# Altium schematic symbol library jlcpcb_2025_04_inductors_extended_1008.schlib: 378 symbols (part 7 of 7)
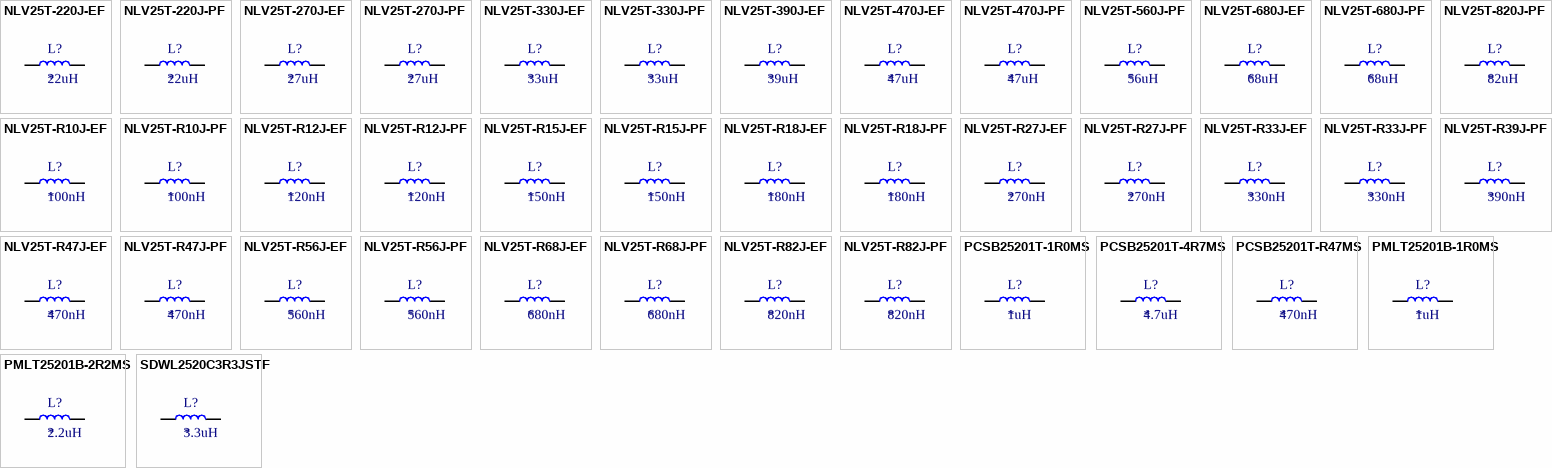
[diagram p15: symbols NLV25T-220J-EF to SDWL2520C3R3JSTF]

## NLV25T-470J-PF
designator L?  Inductance: 47uH
Inductor, 47uH, ±5%, 11.1Ω, 80mA, SMD 1008; Manufacturer: TDK; Manufacturer Part Number: NLV25T-470J-PF; Self-Resonant Frequency: 17MHz; Q Factor: 20@2.52MHz; Package Size: 1008; JLCPCB Basic Part: No; JLCPCB Part Number: C88519; Supplier 1: LCSC; Category: Inductors; Supplier Part Number 1: C88519; Tolerance: ±5%; Rated Current: 80mA; DC Resistance: 11.1Ω; RoHS: Yes; ComponentLink1Description: Datasheet; ComponentLink1URL: https://wmsc.lcsc.com/wmsc/upload/file/pdf/v2/lcsc/1811122108_TDK-NLV25T-470J-PF_C88519.pdf; ComponentLink2Description: JLCPCB Part URL; ComponentLink2URL: https://jlcpcb.com/partdetail/C88519; ComponentLink3Description: LCSC Part URL; ComponentLink3URL: https://lcsc.com/product-detail/Inductors-SMD_TDK-TDK-NLV25T-470J-PF_C88519.html
footprint IND-1008 (1008 (2520M) Inductor)
pins: 1, 2

## NLV25T-560J-PF
designator L?  Inductance: 56uH
Inductor, 56uH, ±5%, 12.1Ω, 75mA, SMD 1008; Manufacturer: TDK; Manufacturer Part Number: NLV25T-560J-PF; Self-Resonant Frequency: 16MHz; Q Factor: 20@2.52MHz; Package Size: 1008; JLCPCB Basic Part: No; JLCPCB Part Number: C88520; Supplier 1: LCSC; Category: Inductors; Supplier Part Number 1: C88520; Tolerance: ±5%; Rated Current: 75mA; DC Resistance: 12.1Ω; RoHS: Yes; ComponentLink1Description: Datasheet; ComponentLink1URL: https://wmsc.lcsc.com/wmsc/upload/file/pdf/v2/lcsc/1810241906_TDK-NLV25T-560J-PF_C88520.pdf; ComponentLink2Description: JLCPCB Part URL; ComponentLink2URL: https://jlcpcb.com/partdetail/C88520; ComponentLink3Description: LCSC Part URL; ComponentLink3URL: https://lcsc.com/product-detail/Inductors-SMD_TDK-TDK-NLV25T-560J-PF_C88520.html
footprint IND-1008 (1008 (2520M) Inductor)
pins: 1, 2

## NLV25T-680J-EF
designator L?  Inductance: 68uH
Inductor, 68uH, ±5%, 16.6Ω, 70mA, SMD 1008; Manufacturer: TDK; Manufacturer Part Number: NLV25T-680J-EF; Self-Resonant Frequency: 15MHz; Q Factor: 20@2.52MHz; Package Size: 1008; JLCPCB Basic Part: No; JLCPCB Part Number: C286750; Supplier 1: LCSC; Category: Inductors; Supplier Part Number 1: C286750; Tolerance: ±5%; Rated Current: 70mA; DC Resistance: 16.6Ω; RoHS: Yes; ComponentLink1Description: Datasheet; ComponentLink1URL: https://wmsc.lcsc.com/wmsc/upload/file/pdf/v2/lcsc/2304140030_TDK-NLV25T-680J-EF_C286750.pdf; ComponentLink2Description: JLCPCB Part URL; ComponentLink2URL: https://jlcpcb.com/partdetail/C286750; ComponentLink3Description: LCSC Part URL; ComponentLink3URL: https://lcsc.com/product-detail/Inductors-SMD_TDK-TDK-NLV25T-680J-EF_C286750.html
footprint IND-1008 (1008 (2520M) Inductor)
pins: 1, 2

## NLV25T-680J-PF
designator L?  Inductance: 68uH
Inductor, 68uH, ±5%, 16.6Ω, 70mA, SMD 1008; Manufacturer: TDK; Manufacturer Part Number: NLV25T-680J-PF; Self-Resonant Frequency: 15MHz; Q Factor: 20@2.52MHz; Package Size: 1008; JLCPCB Basic Part: No; JLCPCB Part Number: C250163; Supplier 1: LCSC; Category: Inductors; Supplier Part Number 1: C250163; Tolerance: ±5%; Rated Current: 70mA; DC Resistance: 16.6Ω; RoHS: Yes; ComponentLink1Description: Datasheet; ComponentLink1URL: https://wmsc.lcsc.com/wmsc/upload/file/pdf/v2/lcsc/1810241920_TDK-NLV25T-680J-PF_C250163.pdf; ComponentLink2Description: JLCPCB Part URL; ComponentLink2URL: https://jlcpcb.com/partdetail/C250163; ComponentLink3Description: LCSC Part URL; ComponentLink3URL: https://lcsc.com/product-detail/Inductors-SMD_TDK-TDK-NLV25T-680J-PF_C250163.html
footprint IND-1008 (1008 (2520M) Inductor)
pins: 1, 2

## NLV25T-820J-PF
designator L?  Inductance: 82uH
Inductor, 82uH, ±5%, 19Ω, 66mA, SMD 1008; Manufacturer: TDK; Manufacturer Part Number: NLV25T-820J-PF; Self-Resonant Frequency: 13MHz; Q Factor: 20@2.52MHz; Package Size: 1008; JLCPCB Basic Part: No; JLCPCB Part Number: C136258; Supplier 1: LCSC; Category: Inductors; Supplier Part Number 1: C136258; Tolerance: ±5%; Rated Current: 66mA; DC Resistance: 19Ω; RoHS: Yes; ComponentLink1Description: Datasheet; ComponentLink1URL: https://wmsc.lcsc.com/wmsc/upload/file/pdf/v2/lcsc/1810241811_TDK-NLV25T-820J-PF_C136258.pdf; ComponentLink2Description: JLCPCB Part URL; ComponentLink2URL: https://jlcpcb.com/partdetail/C136258; ComponentLink3Description: LCSC Part URL; ComponentLink3URL: https://lcsc.com/product-detail/Inductors-SMD_TDK-TDK-NLV25T-820J-PF_C136258.html
footprint IND-1008 (1008 (2520M) Inductor)
pins: 1, 2

## NLV25T-R10J-EF
designator L?  Inductance: 100nH
Inductor, 100nH, ±5%, 800mΩ, 280mA, SMD 1008; Manufacturer: TDK; Manufacturer Part Number: NLV25T-R10J-EF; Self-Resonant Frequency: 800MHz; Q Factor: 20@100MHz; Package Size: 1008; JLCPCB Basic Part: No; JLCPCB Part Number: C295184; Supplier 1: LCSC; Category: Inductors; Supplier Part Number 1: C295184; Tolerance: ±5%; Rated Current: 280mA; DC Resistance: 800mΩ; RoHS: Yes; ComponentLink1Description: Datasheet; ComponentLink1URL: https://wmsc.lcsc.com/wmsc/upload/file/pdf/v2/lcsc/2304140030_TDK-NLV25T-R10J-EF_C295184.pdf; ComponentLink2Description: JLCPCB Part URL; ComponentLink2URL: https://jlcpcb.com/partdetail/C295184; ComponentLink3Description: LCSC Part URL; ComponentLink3URL: https://lcsc.com/product-detail/Inductors-SMD_TDK-TDK-NLV25T-R10J-EF_C295184.html
footprint IND-1008 (1008 (2520M) Inductor)
pins: 1, 2

## NLV25T-R10J-PF
designator L?  Inductance: 100nH
Inductor, 100nH, ±5%, 800mΩ, 280mA, SMD 1008; Manufacturer: TDK; Manufacturer Part Number: NLV25T-R10J-PF; Self-Resonant Frequency: 800MHz; Q Factor: 20@100MHz; Package Size: 1008; JLCPCB Basic Part: No; JLCPCB Part Number: C88522; Supplier 1: LCSC; Category: Inductors; Supplier Part Number 1: C88522; Tolerance: ±5%; Rated Current: 280mA; DC Resistance: 800mΩ; RoHS: Yes; ComponentLink1Description: Datasheet; ComponentLink1URL: https://wmsc.lcsc.com/wmsc/upload/file/pdf/v2/lcsc/1810241906_TDK-NLV25T-R10J-PF_C88522.pdf; ComponentLink2Description: JLCPCB Part URL; ComponentLink2URL: https://jlcpcb.com/partdetail/C88522; ComponentLink3Description: LCSC Part URL; ComponentLink3URL: https://lcsc.com/product-detail/Inductors-SMD_TDK-TDK-NLV25T-R10J-PF_C88522.html
footprint IND-1008 (1008 (2520M) Inductor)
pins: 1, 2

## NLV25T-R12J-EF
designator L?  Inductance: 120nH
Inductor, 120nH, ±5%, 300mΩ, 550mA, SMD 1008; Manufacturer: TDK; Manufacturer Part Number: NLV25T-R12J-EF; Self-Resonant Frequency: 700MHz; Q Factor: 30@25.2MHz; Package Size: 1008; JLCPCB Basic Part: No; JLCPCB Part Number: C295183; Supplier 1: LCSC; Category: Inductors; Supplier Part Number 1: C295183; Tolerance: ±5%; Rated Current: 550mA; DC Resistance: 300mΩ; RoHS: Yes; ComponentLink1Description: Datasheet; ComponentLink1URL: https://wmsc.lcsc.com/wmsc/upload/file/pdf/v2/lcsc/2304140030_TDK-NLV25T-R12J-EF_C295183.pdf; ComponentLink2Description: JLCPCB Part URL; ComponentLink2URL: https://jlcpcb.com/partdetail/C295183; ComponentLink3Description: LCSC Part URL; ComponentLink3URL: https://lcsc.com/product-detail/Inductors-SMD_TDK-TDK-NLV25T-R12J-EF_C295183.html
footprint IND-1008 (1008 (2520M) Inductor)
pins: 1, 2

## NLV25T-R12J-PF
designator L?  Inductance: 120nH
Inductor, 120nH, ±5%, 300mΩ, 550mA, SMD 1008; Manufacturer: TDK; Manufacturer Part Number: NLV25T-R12J-PF; Self-Resonant Frequency: 700MHz; Q Factor: 30@25.2MHz; Package Size: 1008; JLCPCB Basic Part: No; JLCPCB Part Number: C250152; Supplier 1: LCSC; Category: Inductors; Supplier Part Number 1: C250152; Tolerance: ±5%; Rated Current: 550mA; DC Resistance: 300mΩ; RoHS: Yes; ComponentLink1Description: Datasheet; ComponentLink1URL: https://wmsc.lcsc.com/wmsc/upload/file/pdf/v2/lcsc/2304140030_TDK-NLV25T-R12J-PF_C250152.pdf; ComponentLink2Description: JLCPCB Part URL; ComponentLink2URL: https://jlcpcb.com/partdetail/C250152; ComponentLink3Description: LCSC Part URL; ComponentLink3URL: https://lcsc.com/product-detail/Inductors-SMD_TDK-TDK-NLV25T-R12J-PF_C250152.html
footprint IND-1008 (1008 (2520M) Inductor)
pins: 1, 2

## NLV25T-R15J-EF
designator L?  Inductance: 150nH
Inductor, 150nH, ±5%, 350mΩ, 500mA, SMD 1008; Manufacturer: TDK; Manufacturer Part Number: NLV25T-R15J-EF; Self-Resonant Frequency: 550MHz; Q Factor: 30@25.2MHz; Package Size: 1008; JLCPCB Basic Part: No; JLCPCB Part Number: C295185; Supplier 1: LCSC; Category: Inductors; Supplier Part Number 1: C295185; Tolerance: ±5%; Rated Current: 500mA; DC Resistance: 350mΩ; RoHS: Yes; ComponentLink1Description: Datasheet; ComponentLink1URL: https://wmsc.lcsc.com/wmsc/upload/file/pdf/v2/lcsc/2304140030_TDK-NLV25T-R15J-EF_C295185.pdf; ComponentLink2Description: JLCPCB Part URL; ComponentLink2URL: https://jlcpcb.com/partdetail/C295185; ComponentLink3Description: LCSC Part URL; ComponentLink3URL: https://lcsc.com/product-detail/Inductors-SMD_TDK-TDK-NLV25T-R15J-EF_C295185.html
footprint IND-1008 (1008 (2520M) Inductor)
pins: 1, 2

## NLV25T-R15J-PF
designator L?  Inductance: 150nH
Inductor, 150nH, ±5%, 350mΩ, 500mA, SMD 1008; Manufacturer: TDK; Manufacturer Part Number: NLV25T-R15J-PF; Self-Resonant Frequency: 550MHz; Q Factor: 30@25.2MHz; Package Size: 1008; JLCPCB Basic Part: No; JLCPCB Part Number: C250153; Supplier 1: LCSC; Category: Inductors; Supplier Part Number 1: C250153; Tolerance: ±5%; Rated Current: 500mA; DC Resistance: 350mΩ; RoHS: Yes; ComponentLink1Description: Datasheet; ComponentLink1URL: https://wmsc.lcsc.com/wmsc/upload/file/pdf/v2/lcsc/2304140030_TDK-NLV25T-R15J-PF_C250153.pdf; ComponentLink2Description: JLCPCB Part URL; ComponentLink2URL: https://jlcpcb.com/partdetail/C250153; ComponentLink3Description: LCSC Part URL; ComponentLink3URL: https://lcsc.com/product-detail/Inductors-SMD_TDK-TDK-NLV25T-R15J-PF_C250153.html
footprint IND-1008 (1008 (2520M) Inductor)
pins: 1, 2

## NLV25T-R18J-EF
designator L?  Inductance: 180nH
Inductor, 180nH, ±5%, 400mΩ, 475mA, SMD 1008; Manufacturer: TDK; Manufacturer Part Number: NLV25T-R18J-EF; Self-Resonant Frequency: 500MHz; Q Factor: 30@25.2MHz; Package Size: 1008; JLCPCB Basic Part: No; JLCPCB Part Number: C295158; Supplier 1: LCSC; Category: Inductors; Supplier Part Number 1: C295158; Tolerance: ±5%; Rated Current: 475mA; DC Resistance: 400mΩ; RoHS: Yes; ComponentLink1Description: Datasheet; ComponentLink1URL: https://wmsc.lcsc.com/wmsc/upload/file/pdf/v2/lcsc/2304140030_TDK-NLV25T-R18J-EF_C295158.pdf; ComponentLink2Description: JLCPCB Part URL; ComponentLink2URL: https://jlcpcb.com/partdetail/C295158; ComponentLink3Description: LCSC Part URL; ComponentLink3URL: https://lcsc.com/product-detail/Inductors-SMD_TDK-TDK-NLV25T-R18J-EF_C295158.html
footprint IND-1008 (1008 (2520M) Inductor)
pins: 1, 2

## NLV25T-R18J-PF
designator L?  Inductance: 180nH
Inductor, 180nH, ±5%, 400mΩ, 460mA, SMD 1008; Manufacturer: TDK; Manufacturer Part Number: NLV25T-R18J-PF; Self-Resonant Frequency: 500MHz; Q Factor: 30@25.2MHz; Package Size: 1008; JLCPCB Basic Part: No; JLCPCB Part Number: C250154; Supplier 1: LCSC; Category: Inductors; Supplier Part Number 1: C250154; Tolerance: ±5%; Rated Current: 460mA; DC Resistance: 400mΩ; RoHS: Yes; ComponentLink1Description: Datasheet; ComponentLink1URL: https://wmsc.lcsc.com/wmsc/upload/file/pdf/v2/lcsc/2304140030_TDK-NLV25T-R18J-PF_C250154.pdf; ComponentLink2Description: JLCPCB Part URL; ComponentLink2URL: https://jlcpcb.com/partdetail/C250154; ComponentLink3Description: LCSC Part URL; ComponentLink3URL: https://lcsc.com/product-detail/Inductors-SMD_TDK-TDK-NLV25T-R18J-PF_C250154.html
footprint IND-1008 (1008 (2520M) Inductor)
pins: 1, 2

## NLV25T-R27J-EF
designator L?  Inductance: 270nH
Inductor, 270nH, ±5%, 550mΩ, 420mA, SMD 1008; Manufacturer: TDK; Manufacturer Part Number: NLV25T-R27J-EF; Self-Resonant Frequency: 425MHz; Q Factor: 30@25.2MHz; Package Size: 1008; JLCPCB Basic Part: No; JLCPCB Part Number: C295152; Supplier 1: LCSC; Category: Inductors; Supplier Part Number 1: C295152; Tolerance: ±5%; Rated Current: 420mA; DC Resistance: 550mΩ; RoHS: Yes; ComponentLink1Description: Datasheet; ComponentLink1URL: https://wmsc.lcsc.com/wmsc/upload/file/pdf/v2/lcsc/2304140030_TDK-NLV25T-R27J-EF_C295152.pdf; ComponentLink2Description: JLCPCB Part URL; ComponentLink2URL: https://jlcpcb.com/partdetail/C295152; ComponentLink3Description: LCSC Part URL; ComponentLink3URL: https://lcsc.com/product-detail/Inductors-SMD_TDK-TDK-NLV25T-R27J-EF_C295152.html
footprint IND-1008 (1008 (2520M) Inductor)
pins: 1, 2

## NLV25T-R27J-PF
designator L?  Inductance: 270nH
Inductor, 270nH, ±5%, 550mΩ, 420mA, SMD 1008; Manufacturer: TDK; Manufacturer Part Number: NLV25T-R27J-PF; Self-Resonant Frequency: 425MHz; Q Factor: 30@25.2MHz; Package Size: 1008; JLCPCB Basic Part: No; JLCPCB Part Number: C88524; Supplier 1: LCSC; Category: Inductors; Supplier Part Number 1: C88524; Tolerance: ±5%; Rated Current: 420mA; DC Resistance: 550mΩ; RoHS: Yes; ComponentLink1Description: Datasheet; ComponentLink1URL: https://wmsc.lcsc.com/wmsc/upload/file/pdf/v2/lcsc/1810241907_TDK-NLV25T-R27J-PF_C88524.pdf; ComponentLink2Description: JLCPCB Part URL; ComponentLink2URL: https://jlcpcb.com/partdetail/C88524; ComponentLink3Description: LCSC Part URL; ComponentLink3URL: https://lcsc.com/product-detail/Inductors-SMD_TDK-TDK-NLV25T-R27J-PF_C88524.html
footprint IND-1008 (1008 (2520M) Inductor)
pins: 1, 2

## NLV25T-R33J-EF
designator L?  Inductance: 330nH
Inductor, 330nH, ±5%, 600mΩ, 400mA, SMD 1008; Manufacturer: TDK; Manufacturer Part Number: NLV25T-R33J-EF; Self-Resonant Frequency: 400MHz; Q Factor: 30@25.2MHz; Package Size: 1008; JLCPCB Basic Part: No; JLCPCB Part Number: C295133; Supplier 1: LCSC; Category: Inductors; Supplier Part Number 1: C295133; Tolerance: ±5%; Rated Current: 400mA; DC Resistance: 600mΩ; RoHS: Yes; ComponentLink1Description: Datasheet; ComponentLink1URL: https://wmsc.lcsc.com/wmsc/upload/file/pdf/v2/lcsc/2304140030_TDK-NLV25T-R33J-EF_C295133.pdf; ComponentLink2Description: JLCPCB Part URL; ComponentLink2URL: https://jlcpcb.com/partdetail/C295133; ComponentLink3Description: LCSC Part URL; ComponentLink3URL: https://lcsc.com/product-detail/Inductors-SMD_TDK-TDK-NLV25T-R33J-EF_C295133.html
footprint IND-1008 (1008 (2520M) Inductor)
pins: 1, 2

## NLV25T-R33J-PF
designator L?  Inductance: 330nH
Inductor, 330nH, ±5%, 600mΩ, 400mA, SMD 1008; Manufacturer: TDK; Manufacturer Part Number: NLV25T-R33J-PF; Self-Resonant Frequency: 400MHz; Q Factor: 30@25.2MHz; Package Size: 1008; JLCPCB Basic Part: No; JLCPCB Part Number: C250155; Supplier 1: LCSC; Category: Inductors; Supplier Part Number 1: C250155; Tolerance: ±5%; Rated Current: 400mA; DC Resistance: 600mΩ; RoHS: Yes; ComponentLink1Description: Datasheet; ComponentLink1URL: https://wmsc.lcsc.com/wmsc/upload/file/pdf/v2/lcsc/2304140030_TDK-NLV25T-R33J-PF_C250155.pdf; ComponentLink2Description: JLCPCB Part URL; ComponentLink2URL: https://jlcpcb.com/partdetail/C250155; ComponentLink3Description: LCSC Part URL; ComponentLink3URL: https://lcsc.com/product-detail/Inductors-SMD_TDK-TDK-NLV25T-R33J-PF_C250155.html
footprint IND-1008 (1008 (2520M) Inductor)
pins: 1, 2

## NLV25T-R39J-PF
designator L?  Inductance: 390nH
Inductor, 390nH, ±5%, 650mΩ, 375mA, SMD 1008; Manufacturer: TDK; Manufacturer Part Number: NLV25T-R39J-PF; Self-Resonant Frequency: 375MHz; Q Factor: 30@25.2MHz; Package Size: 1008; JLCPCB Basic Part: No; JLCPCB Part Number: C88525; Supplier 1: LCSC; Category: Inductors; Supplier Part Number 1: C88525; Tolerance: ±5%; Rated Current: 375mA; DC Resistance: 650mΩ; RoHS: Yes; ComponentLink1Description: Datasheet; ComponentLink1URL: https://wmsc.lcsc.com/wmsc/upload/file/pdf/v2/lcsc/1810241907_TDK-NLV25T-R39J-PF_C88525.pdf; ComponentLink2Description: JLCPCB Part URL; ComponentLink2URL: https://jlcpcb.com/partdetail/C88525; ComponentLink3Description: LCSC Part URL; ComponentLink3URL: https://lcsc.com/product-detail/Inductors-SMD_TDK-TDK-NLV25T-R39J-PF_C88525.html
footprint IND-1008 (1008 (2520M) Inductor)
pins: 1, 2

## NLV25T-R47J-EF
designator L?  Inductance: 470nH
Inductor, 470nH, ±5%, 680mΩ, 350mA, SMD 1008; Manufacturer: TDK; Manufacturer Part Number: NLV25T-R47J-EF; Self-Resonant Frequency: 350MHz; Q Factor: 30@25.2MHz; Package Size: 1008; JLCPCB Basic Part: No; JLCPCB Part Number: C295134; Supplier 1: LCSC; Category: Inductors; Supplier Part Number 1: C295134; Tolerance: ±5%; Rated Current: 350mA; DC Resistance: 680mΩ; RoHS: Yes; ComponentLink1Description: Datasheet; ComponentLink1URL: https://wmsc.lcsc.com/wmsc/upload/file/pdf/v2/lcsc/2304140030_TDK-NLV25T-R47J-EF_C295134.pdf; ComponentLink2Description: JLCPCB Part URL; ComponentLink2URL: https://jlcpcb.com/partdetail/C295134; ComponentLink3Description: LCSC Part URL; ComponentLink3URL: https://lcsc.com/product-detail/Inductors-SMD_TDK-TDK-NLV25T-R47J-EF_C295134.html
footprint IND-1008 (1008 (2520M) Inductor)
pins: 1, 2

## NLV25T-R47J-PF
designator L?  Inductance: 470nH
Inductor, 470nH, ±5%, 680mΩ, 350mA, SMD 1008; Manufacturer: TDK; Manufacturer Part Number: NLV25T-R47J-PF; Self-Resonant Frequency: 350MHz; Q Factor: 30@25.2MHz; Package Size: 1008; JLCPCB Basic Part: No; JLCPCB Part Number: C88516; Supplier 1: LCSC; Category: Inductors; Supplier Part Number 1: C88516; Tolerance: ±5%; Rated Current: 350mA; DC Resistance: 680mΩ; RoHS: Yes; ComponentLink1Description: Datasheet; ComponentLink1URL: https://wmsc.lcsc.com/wmsc/upload/file/pdf/v2/lcsc/1810241906_TDK-NLV25T-R47J-PF_C88516.pdf; ComponentLink2Description: JLCPCB Part URL; ComponentLink2URL: https://jlcpcb.com/partdetail/C88516; ComponentLink3Description: LCSC Part URL; ComponentLink3URL: https://lcsc.com/product-detail/Inductors-SMD_TDK-TDK-NLV25T-R47J-PF_C88516.html
footprint IND-1008 (1008 (2520M) Inductor)
pins: 1, 2

## NLV25T-R56J-EF
designator L?  Inductance: 560nH
Inductor, 560nH, ±5%, 750mΩ, 325mA, SMD 1008; Manufacturer: TDK; Manufacturer Part Number: NLV25T-R56J-EF; Self-Resonant Frequency: 325MHz; Q Factor: 30@25.2MHz; Package Size: 1008; JLCPCB Basic Part: No; JLCPCB Part Number: C286751; Supplier 1: LCSC; Category: Inductors; Supplier Part Number 1: C286751; Tolerance: ±5%; Rated Current: 325mA; DC Resistance: 750mΩ; RoHS: Yes; ComponentLink1Description: Datasheet; ComponentLink1URL: https://wmsc.lcsc.com/wmsc/upload/file/pdf/v2/lcsc/2304140030_TDK-NLV25T-R56J-EF_C286751.pdf; ComponentLink2Description: JLCPCB Part URL; ComponentLink2URL: https://jlcpcb.com/partdetail/C286751; ComponentLink3Description: LCSC Part URL; ComponentLink3URL: https://lcsc.com/product-detail/Inductors-SMD_TDK-TDK-NLV25T-R56J-EF_C286751.html
footprint IND-1008 (1008 (2520M) Inductor)
pins: 1, 2

## NLV25T-R56J-PF
designator L?  Inductance: 560nH
Inductor, 560nH, ±5%, 750mΩ, 325mA, SMD 1008; Manufacturer: TDK; Manufacturer Part Number: NLV25T-R56J-PF; Self-Resonant Frequency: 325MHz; Q Factor: 30@25.2MHz; Package Size: 1008; JLCPCB Basic Part: No; JLCPCB Part Number: C112987; Supplier 1: LCSC; Category: Inductors; Supplier Part Number 1: C112987; Tolerance: ±5%; Rated Current: 325mA; DC Resistance: 750mΩ; RoHS: Yes; ComponentLink1Description: Datasheet; ComponentLink1URL: https://wmsc.lcsc.com/wmsc/upload/file/pdf/v2/lcsc/1811111614_TDK-NLV25T-R56J-PF_C112987.pdf; ComponentLink2Description: JLCPCB Part URL; ComponentLink2URL: https://jlcpcb.com/partdetail/C112987; ComponentLink3Description: LCSC Part URL; ComponentLink3URL: https://lcsc.com/product-detail/Inductors-SMD_TDK-TDK-NLV25T-R56J-PF_C112987.html
footprint IND-1008 (1008 (2520M) Inductor)
pins: 1, 2

## NLV25T-R68J-EF
designator L?  Inductance: 680nH
Inductor, 680nH, ±5%, 850mΩ, 300mA, SMD 1008; Manufacturer: TDK; Manufacturer Part Number: NLV25T-R68J-EF; Self-Resonant Frequency: 300MHz; Q Factor: 30@25.2MHz; Package Size: 1008; JLCPCB Basic Part: No; JLCPCB Part Number: C295118; Supplier 1: LCSC; Category: Inductors; Supplier Part Number 1: C295118; Tolerance: ±5%; Rated Current: 300mA; DC Resistance: 850mΩ; RoHS: Yes; ComponentLink1Description: Datasheet; ComponentLink1URL: https://wmsc.lcsc.com/wmsc/upload/file/pdf/v2/lcsc/2304140030_TDK-NLV25T-R68J-EF_C295118.pdf; ComponentLink2Description: JLCPCB Part URL; ComponentLink2URL: https://jlcpcb.com/partdetail/C295118; ComponentLink3Description: LCSC Part URL; ComponentLink3URL: https://lcsc.com/product-detail/Inductors-SMD_TDK-TDK-NLV25T-R68J-EF_C295118.html
footprint IND-1008 (1008 (2520M) Inductor)
pins: 1, 2

## NLV25T-R68J-PF
designator L?  Inductance: 680nH
Inductor, 680nH, ±5%, 850mΩ, 300mA, SMD 1008; Manufacturer: TDK; Manufacturer Part Number: NLV25T-R68J-PF; Self-Resonant Frequency: 300MHz; Q Factor: 30@25.2MHz; Package Size: 1008; JLCPCB Basic Part: No; JLCPCB Part Number: C88515; Supplier 1: LCSC; Category: Inductors; Supplier Part Number 1: C88515; Tolerance: ±5%; Rated Current: 300mA; DC Resistance: 850mΩ; RoHS: Yes; ComponentLink1Description: Datasheet; ComponentLink1URL: https://wmsc.lcsc.com/wmsc/upload/file/pdf/v2/lcsc/1810241907_TDK-NLV25T-R68J-PF_C88515.pdf; ComponentLink2Description: JLCPCB Part URL; ComponentLink2URL: https://jlcpcb.com/partdetail/C88515; ComponentLink3Description: LCSC Part URL; ComponentLink3URL: https://lcsc.com/product-detail/Inductors-SMD_TDK-TDK-NLV25T-R68J-PF_C88515.html
footprint IND-1008 (1008 (2520M) Inductor)
pins: 1, 2

## NLV25T-R82J-EF
designator L?  Inductance: 820nH
Inductor, 820nH, ±5%, 1Ω, 260mA, SMD 1008; Manufacturer: TDK; Manufacturer Part Number: NLV25T-R82J-EF; Self-Resonant Frequency: 260MHz; Q Factor: 30@25.2MHz; Package Size: 1008; JLCPCB Basic Part: No; JLCPCB Part Number: C295135; Supplier 1: LCSC; Category: Inductors; Supplier Part Number 1: C295135; Tolerance: ±5%; Rated Current: 260mA; DC Resistance: 1Ω; RoHS: Yes; ComponentLink1Description: Datasheet; ComponentLink1URL: https://wmsc.lcsc.com/wmsc/upload/file/pdf/v2/lcsc/2304140030_TDK-NLV25T-R82J-EF_C295135.pdf; ComponentLink2Description: JLCPCB Part URL; ComponentLink2URL: https://jlcpcb.com/partdetail/C295135; ComponentLink3Description: LCSC Part URL; ComponentLink3URL: https://lcsc.com/product-detail/Inductors-SMD_TDK-TDK-NLV25T-R82J-EF_C295135.html
footprint IND-1008 (1008 (2520M) Inductor)
pins: 1, 2

## NLV25T-R82J-PF
designator L?  Inductance: 820nH
Inductor, 820nH, ±5%, 1Ω, 260mA, SMD 1008; Manufacturer: TDK; Manufacturer Part Number: NLV25T-R82J-PF; Self-Resonant Frequency: 260MHz; Q Factor: 30@25.2MHz; Package Size: 1008; JLCPCB Basic Part: No; JLCPCB Part Number: C250156; Supplier 1: LCSC; Category: Inductors; Supplier Part Number 1: C250156; Tolerance: ±5%; Rated Current: 260mA; DC Resistance: 1Ω; RoHS: Yes; ComponentLink1Description: Datasheet; ComponentLink1URL: https://wmsc.lcsc.com/wmsc/upload/file/pdf/v2/lcsc/2304140030_TDK-NLV25T-R82J-PF_C250156.pdf; ComponentLink2Description: JLCPCB Part URL; ComponentLink2URL: https://jlcpcb.com/partdetail/C250156; ComponentLink3Description: LCSC Part URL; ComponentLink3URL: https://lcsc.com/product-detail/Inductors-SMD_TDK-TDK-NLV25T-R82J-PF_C250156.html
footprint IND-1008 (1008 (2520M) Inductor)
pins: 1, 2

## PCSB25201T-1R0MS
designator L?  Inductance: 1uH
Inductor, 1uH, ±20%, 52mΩ, 3.3A, SMD 1008; Manufacturer: Cyntec; Manufacturer Part Number: PCSB25201T-1R0MS; Saturation Current: 3.9A; Package Size: 1008; JLCPCB Basic Part: No; JLCPCB Part Number: C218808; Supplier 1: LCSC; Category: Inductors; Supplier Part Number 1: C218808; Tolerance: ±20%; Rated Current: 3.3A; DC Resistance: 52mΩ; RoHS: Yes; ComponentLink1Description: Datasheet; ComponentLink1URL: https://wmsc.lcsc.com/wmsc/upload/file/pdf/v2/lcsc/2304140030_Cyntec-PCSB25201T-1R0MS_C218808.pdf; ComponentLink2Description: JLCPCB Part URL; ComponentLink2URL: https://jlcpcb.com/partdetail/C218808; ComponentLink3Description: LCSC Part URL; ComponentLink3URL: https://lcsc.com/product-detail/Inductors-SMD_Cyntec-Cyntec-PCSB25201T-1R0MS_C218808.html
footprint IND-1008 (1008 (2520M) Inductor)
pins: 1, 2

## PCSB25201T-4R7MS
designator L?  Inductance: 4.7uH
Inductor, 4.7uH, ±20%, 217mΩ, 1.5A, SMD 1008; Manufacturer: Cyntec; Manufacturer Part Number: PCSB25201T-4R7MS; Saturation Current: 1.7A; Package Size: 1008; JLCPCB Basic Part: No; JLCPCB Part Number: C218811; Supplier 1: LCSC; Category: Inductors; Supplier Part Number 1: C218811; Tolerance: ±20%; Rated Current: 1.5A; DC Resistance: 217mΩ; RoHS: Yes; ComponentLink1Description: Datasheet; ComponentLink1URL: https://wmsc.lcsc.com/wmsc/upload/file/pdf/v2/lcsc/2304140030_Cyntec-PCSB25201T-4R7MS_C218811.pdf; ComponentLink2Description: JLCPCB Part URL; ComponentLink2URL: https://jlcpcb.com/partdetail/C218811; ComponentLink3Description: LCSC Part URL; ComponentLink3URL: https://lcsc.com/product-detail/Inductors-SMD_Cyntec-Cyntec-PCSB25201T-4R7MS_C218811.html
footprint IND-1008 (1008 (2520M) Inductor)
pins: 1, 2

## PCSB25201T-R47MS
designator L?  Inductance: 470nH
Inductor, 470nH, ±20%, 29mΩ, 3.9A, SMD 1008; Manufacturer: Cyntec; Manufacturer Part Number: PCSB25201T-R47MS; Saturation Current: 4.7A; Package Size: 1008; JLCPCB Basic Part: No; JLCPCB Part Number: C218813; Supplier 1: LCSC; Category: Inductors; Supplier Part Number 1: C218813; Tolerance: ±20%; Rated Current: 3.9A; DC Resistance: 29mΩ; RoHS: Yes; ComponentLink1Description: Datasheet; ComponentLink1URL: https://wmsc.lcsc.com/wmsc/upload/file/pdf/v2/lcsc/2304140030_Cyntec-PCSB25201T-R47MS_C218813.pdf; ComponentLink2Description: JLCPCB Part URL; ComponentLink2URL: https://jlcpcb.com/partdetail/C218813; ComponentLink3Description: LCSC Part URL; ComponentLink3URL: https://lcsc.com/product-detail/Inductors-SMD_Cyntec-Cyntec-PCSB25201T-R47MS_C218813.html
footprint IND-1008 (1008 (2520M) Inductor)
pins: 1, 2

## PMLT25201B-1R0MS
designator L?  Inductance: 1uH
Inductor, 1uH, ±20%, 50mΩ, 2.6A, SMD 1008; Manufacturer: Cyntec; Manufacturer Part Number: PMLT25201B-1R0MS; Saturation Current: 2.55A; Package Size: 1008; JLCPCB Basic Part: No; JLCPCB Part Number: C218828; Supplier 1: LCSC; Category: Inductors; Supplier Part Number 1: C218828; Tolerance: ±20%; Rated Current: 2.6A; DC Resistance: 50mΩ; RoHS: Yes; ComponentLink1Description: Datasheet; ComponentLink1URL: https://wmsc.lcsc.com/wmsc/upload/file/pdf/v2/lcsc/2304140030_Cyntec-PMLT25201B-1R0MS_C218828.pdf; ComponentLink2Description: JLCPCB Part URL; ComponentLink2URL: https://jlcpcb.com/partdetail/C218828; ComponentLink3Description: LCSC Part URL; ComponentLink3URL: https://lcsc.com/product-detail/Inductors-SMD_Cyntec-Cyntec-PMLT25201B-1R0MS_C218828.html
footprint IND-1008 (1008 (2520M) Inductor)
pins: 1, 2

## PMLT25201B-2R2MS
designator L?  Inductance: 2.2uH
Inductor, 2.2uH, ±20%, 96mΩ, 1.85A, SMD 1008; Manufacturer: Cyntec; Manufacturer Part Number: PMLT25201B-2R2MS; Saturation Current: 1.83A; Package Size: 1008; JLCPCB Basic Part: No; JLCPCB Part Number: C218829; Supplier 1: LCSC; Category: Inductors; Supplier Part Number 1: C218829; Tolerance: ±20%; Rated Current: 1.85A; DC Resistance: 96mΩ; RoHS: Yes; ComponentLink1Description: Datasheet; ComponentLink1URL: https://wmsc.lcsc.com/wmsc/upload/file/pdf/v2/lcsc/2004131231_Cyntec-PMLT25201B-2R2MS_C218829.pdf; ComponentLink2Description: JLCPCB Part URL; ComponentLink2URL: https://jlcpcb.com/partdetail/C218829; ComponentLink3Description: LCSC Part URL; ComponentLink3URL: https://lcsc.com/product-detail/Inductors-SMD_Cyntec-Cyntec-PMLT25201B-2R2MS_C218829.html
footprint IND-1008 (1008 (2520M) Inductor)
pins: 1, 2

## SDWL2520C3R3JSTF
designator L?  Inductance: 3.3uH
Inductor, 3.3uH, ±5%, 3.4Ω, 290mA, SMD 1008; Manufacturer: Sunlord; Manufacturer Part Number: SDWL2520C3R3JSTF; Package Size: 1008; JLCPCB Basic Part: No; JLCPCB Part Number: C305135; Supplier 1: LCSC; Category: Inductors; Supplier Part Number 1: C305135; Tolerance: ±5%; Rated Current: 290mA; DC Resistance: 3.4Ω; RoHS: Yes; ComponentLink1Description: Datasheet; ComponentLink1URL: https://wmsc.lcsc.com/wmsc/upload/file/pdf/v2/lcsc/2310271750_Sunlord-SDWL2520C3R3JSTF_C305135.pdf; ComponentLink2Description: JLCPCB Part URL; ComponentLink2URL: https://jlcpcb.com/partdetail/C305135; ComponentLink3Description: LCSC Part URL; ComponentLink3URL: https://lcsc.com/product-detail/Inductors-SMD_Sunlord-Sunlord-SDWL2520C3R3JSTF_C305135.html
footprint IND-1008 (1008 (2520M) Inductor)
pins: 1, 2

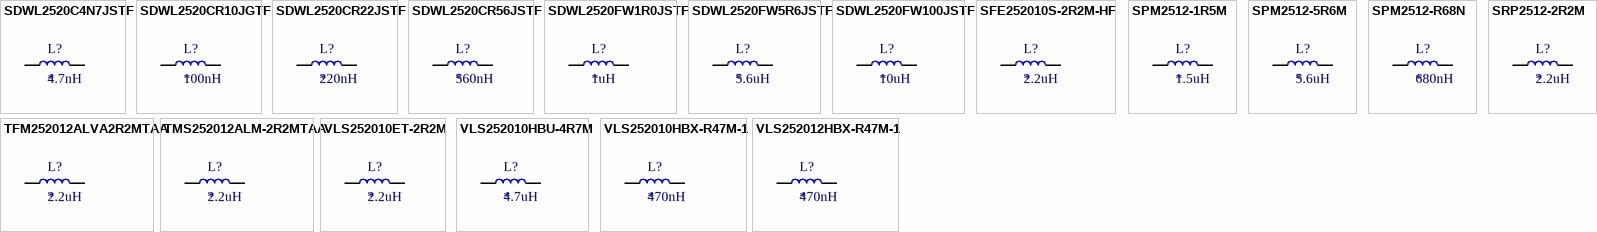
[diagram p9: symbols SDWL2520C4N7JSTF to VLS252012HBX-R47M-1]

## SDWL2520C4N7JSTF
designator L?  Inductance: 4.7nH
Inductor, 4.7nH, ±5%, 110mΩ, 1A, SMD 1008; Manufacturer: Sunlord; Manufacturer Part Number: SDWL2520C4N7JSTF; Package Size: 1008; JLCPCB Basic Part: No; JLCPCB Part Number: C431687; Supplier 1: LCSC; Category: Inductors; Supplier Part Number 1: C431687; Tolerance: ±5%; Rated Current: 1A; DC Resistance: 110mΩ; RoHS: Yes; ComponentLink1Description: Datasheet; ComponentLink1URL: https://wmsc.lcsc.com/wmsc/upload/file/pdf/v2/lcsc/2310301641_Sunlord-SDWL2520C4N7JSTF_C431687.pdf; ComponentLink2Description: JLCPCB Part URL; ComponentLink2URL: https://jlcpcb.com/partdetail/C431687; ComponentLink3Description: LCSC Part URL; ComponentLink3URL: https://lcsc.com/product-detail/Inductors-SMD_Sunlord-Sunlord-SDWL2520C4N7JSTF_C431687.html
footprint IND-1008 (1008 (2520M) Inductor)
pins: 1, 2

## SDWL2520CR10JGTF
designator L?  Inductance: 100nH
Inductor, 100nH, ±5%, 560mΩ, 650mA, SMD 1008; Manufacturer: Sunlord; Manufacturer Part Number: SDWL2520CR10JGTF; Self-Resonant Frequency: 1GHz; Q Factor: 60@350MHz; Package Size: 1008; JLCPCB Basic Part: No; JLCPCB Part Number: C380000; Supplier 1: LCSC; Category: Inductors; Supplier Part Number 1: C380000; Tolerance: ±5%; Rated Current: 650mA; DC Resistance: 560mΩ; RoHS: Yes; ComponentLink1Description: Datasheet; ComponentLink1URL: https://wmsc.lcsc.com/wmsc/upload/file/pdf/v2/lcsc/2310301641_Sunlord-SDWL2520CR10JGTF_C380000.pdf; ComponentLink2Description: JLCPCB Part URL; ComponentLink2URL: https://jlcpcb.com/partdetail/C380000; ComponentLink3Description: LCSC Part URL; ComponentLink3URL: https://lcsc.com/product-detail/Inductors-SMD_Sunlord-Sunlord-SDWL2520CR10JGTF_C380000.html
footprint IND-1008 (1008 (2520M) Inductor)
pins: 1, 2

## SDWL2520CR22JSTF
designator L?  Inductance: 220nH
Inductor, 220nH, ±5%, 800mΩ, 500mA, SMD 1008; Manufacturer: Sunlord; Manufacturer Part Number: SDWL2520CR22JSTF; Package Size: 1008; JLCPCB Basic Part: No; JLCPCB Part Number: C431689; Supplier 1: LCSC; Category: Inductors; Supplier Part Number 1: C431689; Tolerance: ±5%; Rated Current: 500mA; DC Resistance: 800mΩ; RoHS: Yes; ComponentLink1Description: Datasheet; ComponentLink1URL: https://wmsc.lcsc.com/wmsc/upload/file/pdf/v2/lcsc/2310301641_Sunlord-SDWL2520CR22JSTF_C431689.pdf; ComponentLink2Description: JLCPCB Part URL; ComponentLink2URL: https://jlcpcb.com/partdetail/C431689; ComponentLink3Description: LCSC Part URL; ComponentLink3URL: https://lcsc.com/product-detail/Inductors-SMD_Sunlord-Sunlord-SDWL2520CR22JSTF_C431689.html
footprint IND-1008 (1008 (2520M) Inductor)
pins: 1, 2

## SDWL2520CR56JSTF
designator L?  Inductance: 560nH
Inductor, 560nH, ±5%, 1.33Ω, 400mA, SMD 1008; Manufacturer: Sunlord; Manufacturer Part Number: SDWL2520CR56JSTF; Package Size: 1008; JLCPCB Basic Part: No; JLCPCB Part Number: C431690; Supplier 1: LCSC; Category: Inductors; Supplier Part Number 1: C431690; Tolerance: ±5%; Rated Current: 400mA; DC Resistance: 1.33Ω; RoHS: Yes; ComponentLink1Description: Datasheet; ComponentLink1URL: https://wmsc.lcsc.com/wmsc/upload/file/pdf/v2/lcsc/2310301641_Sunlord-SDWL2520CR56JSTF_C431690.pdf; ComponentLink2Description: JLCPCB Part URL; ComponentLink2URL: https://jlcpcb.com/partdetail/C431690; ComponentLink3Description: LCSC Part URL; ComponentLink3URL: https://lcsc.com/product-detail/Inductors-SMD_Sunlord-Sunlord-SDWL2520CR56JSTF_C431690.html
footprint IND-1008 (1008 (2520M) Inductor)
pins: 1, 2

## SDWL2520FW1R0JSTF
designator L?  Inductance: 1uH
Inductor, 1uH, ±5%, 800mΩ, 600mA, SMD 1008; Manufacturer: Sunlord; Manufacturer Part Number: SDWL2520FW1R0JSTF; Package Size: 1008; JLCPCB Basic Part: No; JLCPCB Part Number: C431693; Supplier 1: LCSC; Category: Inductors; Supplier Part Number 1: C431693; Tolerance: ±5%; Rated Current: 600mA; DC Resistance: 800mΩ; RoHS: Yes; ComponentLink1Description: Datasheet; ComponentLink1URL: https://wmsc.lcsc.com/wmsc/upload/file/pdf/v2/lcsc/2310301641_Sunlord-SDWL2520FW1R0JSTF_C431693.pdf; ComponentLink2Description: JLCPCB Part URL; ComponentLink2URL: https://jlcpcb.com/partdetail/C431693; ComponentLink3Description: LCSC Part URL; ComponentLink3URL: https://lcsc.com/product-detail/Inductors-SMD_Sunlord-Sunlord-SDWL2520FW1R0JSTF_C431693.html
footprint IND-1008 (1008 (2520M) Inductor)
pins: 1, 2

## SDWL2520FW5R6JSTF
designator L?  Inductance: 5.6uH
Inductor, 5.6uH, ±5%, 2.65Ω, 380mA, SMD 1008; Manufacturer: Sunlord; Manufacturer Part Number: SDWL2520FW5R6JSTF; Package Size: 1008; JLCPCB Basic Part: No; JLCPCB Part Number: C431694; Supplier 1: LCSC; Category: Inductors; Supplier Part Number 1: C431694; Tolerance: ±5%; Rated Current: 380mA; DC Resistance: 2.65Ω; RoHS: Yes; ComponentLink1Description: Datasheet; ComponentLink1URL: https://wmsc.lcsc.com/wmsc/upload/file/pdf/v2/lcsc/2310301641_Sunlord-SDWL2520FW5R6JSTF_C431694.pdf; ComponentLink2Description: JLCPCB Part URL; ComponentLink2URL: https://jlcpcb.com/partdetail/C431694; ComponentLink3Description: LCSC Part URL; ComponentLink3URL: https://lcsc.com/product-detail/Inductors-SMD_Sunlord-Sunlord-SDWL2520FW5R6JSTF_C431694.html
footprint IND-1008 (1008 (2520M) Inductor)
pins: 1, 2

## SDWL2520FW100JSTF
designator L?  Inductance: 10uH
Inductor, 10uH, ±5%, 2.95Ω, 300mA, SMD 1008; Manufacturer: Sunlord; Manufacturer Part Number: SDWL2520FW100JSTF; Package Size: 1008; JLCPCB Basic Part: No; JLCPCB Part Number: C431692; Supplier 1: LCSC; Category: Inductors; Supplier Part Number 1: C431692; Tolerance: ±5%; Rated Current: 300mA; DC Resistance: 2.95Ω; RoHS: Yes; ComponentLink1Description: Datasheet; ComponentLink1URL: https://wmsc.lcsc.com/wmsc/upload/file/pdf/v2/lcsc/2310301641_Sunlord-SDWL2520FW100JSTF_C431692.pdf; ComponentLink2Description: JLCPCB Part URL; ComponentLink2URL: https://jlcpcb.com/partdetail/C431692; ComponentLink3Description: LCSC Part URL; ComponentLink3URL: https://lcsc.com/product-detail/Inductors-SMD_Sunlord-Sunlord-SDWL2520FW100JSTF_C431692.html
footprint IND-1008 (1008 (2520M) Inductor)
pins: 1, 2

## SFE252010S-2R2M-HF
designator L?  Inductance: 2.2uH
Inductor, 2.2uH, ±20%, 150mΩ, SMD 1008; Manufacturer: DDY; Manufacturer Part Number: SFE252010S-2R2M-HF; Package Size: 1008; JLCPCB Basic Part: No; JLCPCB Part Number: C2986800; Supplier 1: LCSC; Category: Inductors; Supplier Part Number 1: C2986800; Tolerance: ±20%; DC Resistance: 150mΩ; RoHS: Yes; ComponentLink1Description: Datasheet; ComponentLink1URL: https://wmsc.lcsc.com/wmsc/upload/file/pdf/v2/lcsc/2205071800_DDY-SFE252010S-2R2M-HF_C2986800.pdf; ComponentLink2Description: JLCPCB Part URL; ComponentLink2URL: https://jlcpcb.com/partdetail/C2986800; ComponentLink3Description: LCSC Part URL; ComponentLink3URL: https://lcsc.com/product-detail/Inductors-SMD_DDY-DDY-SFE252010S-2R2M-HF_C2986800.html
footprint IND-1008 (1008 (2520M) Inductor)
pins: 1, 2

## SPM2512-1R5M
designator L?  Inductance: 1.5uH
Inductor, 1.5uH, ±20%, 82mΩ, 2.2A, SMD 1008; Manufacturer: KOHERelec; Manufacturer Part Number: SPM2512-1R5M; Saturation Current: 4.2A; Package Size: 1008; JLCPCB Basic Part: No; JLCPCB Part Number: C2761859; Supplier 1: LCSC; Category: Inductors; Supplier Part Number 1: C2761859; Tolerance: ±20%; Rated Current: 2.2A; DC Resistance: 82mΩ; RoHS: Yes; ComponentLink1Description: Datasheet; ComponentLink1URL: https://wmsc.lcsc.com/wmsc/upload/file/pdf/v2/lcsc/2308230916_KOHERelec-SPM2512-1R5M_C2761859.pdf; ComponentLink2Description: JLCPCB Part URL; ComponentLink2URL: https://jlcpcb.com/partdetail/C2761859; ComponentLink3Description: LCSC Part URL; ComponentLink3URL: https://lcsc.com/product-detail/Inductors-SMD_KOHERelec-KOHERelec-SPM2512-1R5M_C2761859.html
footprint IND-1008 (1008 (2520M) Inductor)
pins: 1, 2

## SPM2512-5R6M
designator L?  Inductance: 5.6uH
Inductor, 5.6uH, ±20%, 405mΩ, 900mA, SMD 1008; Manufacturer: KOHERelec; Manufacturer Part Number: SPM2512-5R6M; Saturation Current: 1.9A; Package Size: 1008; JLCPCB Basic Part: No; JLCPCB Part Number: C2761861; Supplier 1: LCSC; Category: Inductors; Supplier Part Number 1: C2761861; Tolerance: ±20%; Rated Current: 900mA; DC Resistance: 405mΩ; RoHS: Yes; ComponentLink1Description: Datasheet; ComponentLink1URL: https://wmsc.lcsc.com/wmsc/upload/file/pdf/v2/lcsc/2106062036_KOHERelec-SPM2512-5R6M_C2761861.pdf; ComponentLink2Description: JLCPCB Part URL; ComponentLink2URL: https://jlcpcb.com/partdetail/C2761861; ComponentLink3Description: LCSC Part URL; ComponentLink3URL: https://lcsc.com/product-detail/Inductors-SMD_KOHERelec-KOHERelec-SPM2512-5R6M_C2761861.html
footprint IND-1008 (1008 (2520M) Inductor)
pins: 1, 2

## SPM2512-R68N
designator L?  Inductance: 680nH
Inductor, 680nH, ±30%, 45mΩ, 2.9A, SMD 1008; Manufacturer: KOHERelec; Manufacturer Part Number: SPM2512-R68N; Saturation Current: 6.1A; Package Size: 1008; JLCPCB Basic Part: No; JLCPCB Part Number: C2761857; Supplier 1: LCSC; Category: Inductors; Supplier Part Number 1: C2761857; Tolerance: ±30%; Rated Current: 2.9A; DC Resistance: 45mΩ; RoHS: Yes; ComponentLink1Description: Datasheet; ComponentLink1URL: https://wmsc.lcsc.com/wmsc/upload/file/pdf/v2/lcsc/2304140030_KOHERelec-SPM2512-R68N_C2761857.pdf; ComponentLink2Description: JLCPCB Part URL; ComponentLink2URL: https://jlcpcb.com/partdetail/C2761857; ComponentLink3Description: LCSC Part URL; ComponentLink3URL: https://lcsc.com/product-detail/Inductors-SMD_KOHERelec-KOHERelec-SPM2512-R68N_C2761857.html
footprint IND-1008 (1008 (2520M) Inductor)
pins: 1, 2

## SRP2512-2R2M
designator L?  Inductance: 2.2uH
Inductor, 2.2uH, ±20%, 104mΩ, 2.1A, SMD 1008; Manufacturer: BOURNS; Manufacturer Part Number: SRP2512-2R2M; Saturation Current: 3A; Package Size: 1008; JLCPCB Basic Part: No; JLCPCB Part Number: C2050497; Supplier 1: LCSC; Category: Inductors; Supplier Part Number 1: C2050497; Tolerance: ±20%; Rated Current: 2.1A; DC Resistance: 104mΩ; RoHS: Yes; ComponentLink1Description: Datasheet; ComponentLink1URL: https://wmsc.lcsc.com/wmsc/upload/file/pdf/v2/lcsc/2202010530_BOURNS-SRP2512-2R2M_C2050497.pdf; ComponentLink2Description: JLCPCB Part URL; ComponentLink2URL: https://jlcpcb.com/partdetail/C2050497; ComponentLink3Description: LCSC Part URL; ComponentLink3URL: https://lcsc.com/product-detail/Power-Inductors_BOURNS-BOURNS-SRP2512-2R2M_C2050497.html
footprint IND-1008 (1008 (2520M) Inductor)
pins: 1, 2

## TFM252012ALVA2R2MTAA
designator L?  Inductance: 2.2uH
Inductor, 2.2uH, ±20%, 75mΩ, 2.6A, SMD 1008; Manufacturer: TDK; Manufacturer Part Number: TFM252012ALVA2R2MTAA; Saturation Current: 2.8A; Package Size: 1008; JLCPCB Basic Part: No; JLCPCB Part Number: C2047711; Supplier 1: LCSC; Category: Inductors; Supplier Part Number 1: C2047711; Tolerance: ±20%; Rated Current: 2.6A; DC Resistance: 75mΩ; RoHS: Yes; ComponentLink1Description: Datasheet; ComponentLink1URL: https://wmsc.lcsc.com/wmsc/upload/file/pdf/v2/lcsc/2304140030_TDK-TFM252012ALVA2R2MTAA_C2047711.pdf; ComponentLink2Description: JLCPCB Part URL; ComponentLink2URL: https://jlcpcb.com/partdetail/C2047711; ComponentLink3Description: LCSC Part URL; ComponentLink3URL: https://lcsc.com/product-detail/Inductors-SMD_TDK-TDK-TFM252012ALVA2R2MTAA_C2047711.html
footprint IND-1008 (1008 (2520M) Inductor)
pins: 1, 2

## TMS252012ALM-2R2MTAA
designator L?  Inductance: 2.2uH
Inductor, 2.2uH, ±20%, 75mΩ, 2.6A, SMD 1008; Manufacturer: TDK; Manufacturer Part Number: TMS252012ALM-2R2MTAA; Saturation Current: 2.8A; Package Size: 1008; JLCPCB Basic Part: No; JLCPCB Part Number: C1017131; Supplier 1: LCSC; Category: Inductors; Supplier Part Number 1: C1017131; Tolerance: ±20%; Rated Current: 2.6A; DC Resistance: 75mΩ; RoHS: Yes; ComponentLink1Description: Datasheet; ComponentLink1URL: https://wmsc.lcsc.com/wmsc/upload/file/pdf/v2/lcsc/2304140030_TDK-TMS252012ALM-2R2MTAA_C1017131.pdf; ComponentLink2Description: JLCPCB Part URL; ComponentLink2URL: https://jlcpcb.com/partdetail/C1017131; ComponentLink3Description: LCSC Part URL; ComponentLink3URL: https://lcsc.com/product-detail/Inductors-SMD_TDK-TDK-TMS252012ALM-2R2MTAA_C1017131.html
footprint IND-1008 (1008 (2520M) Inductor)
pins: 1, 2

## VLS252010ET-2R2M
designator L?  Inductance: 2.2uH
Inductor, 2.2uH, ±20%, 190mΩ, 1.2A, SMD 1008; Manufacturer: TDK; Manufacturer Part Number: VLS252010ET-2R2M; Package Size: 1008; JLCPCB Basic Part: No; JLCPCB Part Number: C92052; Supplier 1: LCSC; Category: Inductors; Supplier Part Number 1: C92052; Tolerance: ±20%; Rated Current: 1.2A; Saturation Current: 1.2A; DC Resistance: 190mΩ; RoHS: Yes; ComponentLink1Description: Datasheet; ComponentLink1URL: https://wmsc.lcsc.com/wmsc/upload/file/pdf/v2/lcsc/1811051610_TDK-VLS252010ET-2R2M_C92052.pdf; ComponentLink2Description: JLCPCB Part URL; ComponentLink2URL: https://jlcpcb.com/partdetail/C92052; ComponentLink3Description: LCSC Part URL; ComponentLink3URL: https://lcsc.com/product-detail/Inductors-SMD_TDK-TDK-VLS252010ET-2R2M_C92052.html
footprint IND-1008 (1008 (2520M) Inductor)
pins: 1, 2

## VLS252010HBU-4R7M
designator L?  Inductance: 4.7uH
Inductor, 4.7uH, ±20%, 274mΩ, 1.01A, SMD 1008; Manufacturer: TDK; Manufacturer Part Number: VLS252010HBU-4R7M; Package Size: 1008; JLCPCB Basic Part: No; JLCPCB Part Number: C413592; Supplier 1: LCSC; Category: Inductors; Supplier Part Number 1: C413592; Tolerance: ±20%; Rated Current: 1.01A; DC Resistance: 274mΩ; RoHS: Yes; ComponentLink1Description: Datasheet; ComponentLink1URL: https://wmsc.lcsc.com/wmsc/upload/file/pdf/v2/lcsc/1912111437_TDK-VLS252010HBU-4R7M_C413592.pdf; ComponentLink2Description: JLCPCB Part URL; ComponentLink2URL: https://jlcpcb.com/partdetail/C413592; ComponentLink3Description: LCSC Part URL; ComponentLink3URL: https://lcsc.com/product-detail/Inductors-SMD_TDK-TDK-VLS252010HBU-4R7M_C413592.html
footprint IND-1008 (1008 (2520M) Inductor)
pins: 1, 2

## VLS252010HBX-R47M-1
designator L?  Inductance: 470nH
Inductor, 470nH, ±20%, 35mΩ, 3.32A, SMD 1008; Manufacturer: TDK; Manufacturer Part Number: VLS252010HBX-R47M-1; Saturation Current: 4.53A; Package Size: 1008; JLCPCB Basic Part: No; JLCPCB Part Number: C88530; Supplier 1: LCSC; Category: Inductors; Supplier Part Number 1: C88530; Tolerance: ±20%; Rated Current: 3.32A; DC Resistance: 35mΩ; RoHS: Yes; ComponentLink1Description: Datasheet; ComponentLink1URL: https://wmsc.lcsc.com/wmsc/upload/file/pdf/v2/lcsc/1810241907_TDK-VLS252010HBX-R47M-1_C88530.pdf; ComponentLink2Description: JLCPCB Part URL; ComponentLink2URL: https://jlcpcb.com/partdetail/C88530; ComponentLink3Description: LCSC Part URL; ComponentLink3URL: https://lcsc.com/product-detail/Inductors-SMD_TDK-TDK-VLS252010HBX-R47M-1_C88530.html
footprint IND-1008 (1008 (2520M) Inductor)
pins: 1, 2

## VLS252012HBX-R47M-1
designator L?  Inductance: 470nH
Inductor, 470nH, ±20%, 290mΩ, 4A, SMD 1008; Manufacturer: TDK; Manufacturer Part Number: VLS252012HBX-R47M-1; Saturation Current: 4.5A; Package Size: 1008; JLCPCB Basic Part: No; JLCPCB Part Number: C88537; Supplier 1: LCSC; Category: Inductors; Supplier Part Number 1: C88537; Tolerance: ±20%; Rated Current: 4A; DC Resistance: 290mΩ; RoHS: Yes; ComponentLink1Description: Datasheet; ComponentLink1URL: https://wmsc.lcsc.com/wmsc/upload/file/pdf/v2/lcsc/2304140030_TDK-VLS252012HBX-R47M-1_C88537.pdf; ComponentLink2Description: JLCPCB Part URL; ComponentLink2URL: https://jlcpcb.com/partdetail/C88537; ComponentLink3Description: LCSC Part URL; ComponentLink3URL: https://lcsc.com/product-detail/Inductors-SMD_TDK-TDK-VLS252012HBX-R47M-1_C88537.html
footprint IND-1008 (1008 (2520M) Inductor)
pins: 1, 2